# Altium footprint library WE-SHC.PcbLib: 139 footprints (part 10 of 10)
Each footprint in its own frame and in the unit in brackets; x right, y up, seen from the top. Pads: shape width x height; smd on the part's side, far side on the other; paste and mask are expansions set on the pad; w line width, h text height; cw(c..) or ccw(c..) is an arc to the next point about the centre after c.
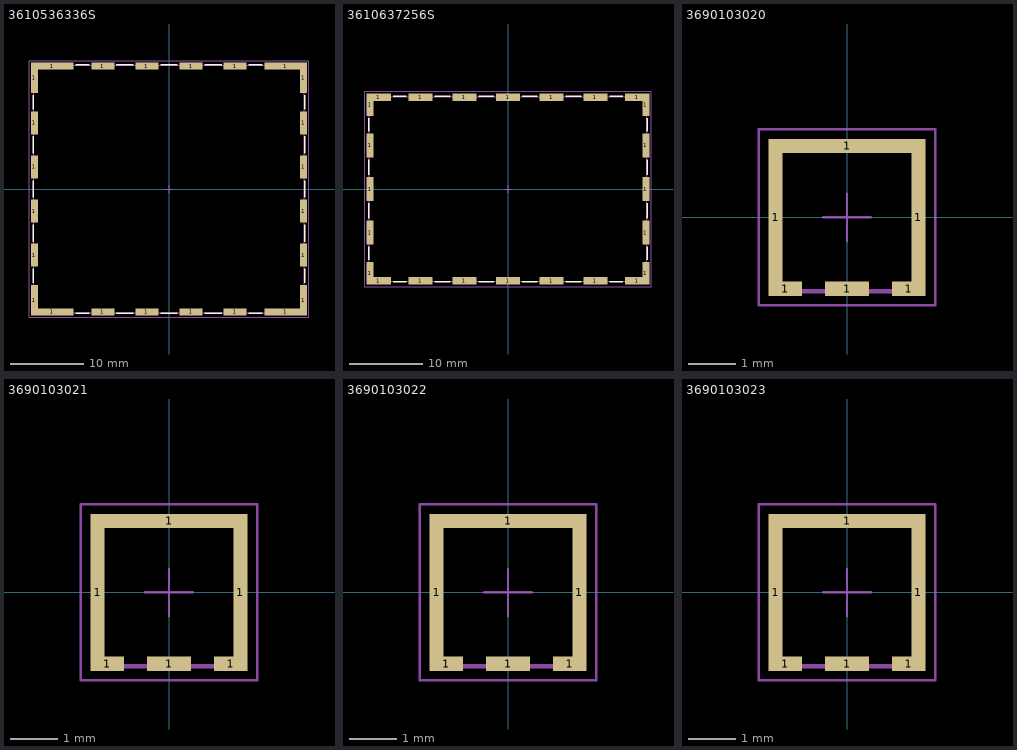
[diagram p9: the footprints below, top view; thin cyan lines are the x and y axes]

## 3610536336S [mm] "Shielding Cabinet, SMD Frame, 36.83x33.68mm"
height 5.18
pads (24):
  rect 1x4.2 smd: 1(-18.315,-15.14) 1(-18.315,15.14) 1(18.315,-15.14) 1(18.315,15.14)
  rect 1x3.1 smd: 1(-18.315,-9) 1(-18.315,-3) 1(-18.315,3) 1(-18.315,9) 1(18.315,-9) 1(18.315,-3) 1(18.315,3) 1(18.315,9)
  rect 5.8x1 smd: 1(-15.915,-16.74) 1(-15.915,16.74) 1(15.915,-16.74) 1(15.915,16.74)
  rect 3.1x1 smd: 1(-9,-16.74) 1(-9,16.74) 1(-3,-16.74) 1(-3,16.74) 1(3,-16.74) 1(3,16.74) 1(9,-16.74) 1(9,16.74)
Top Overlay:
  lines w0.2: -18.465,-12.75 -18.465,-10.85 ; -18.465,-7.15 -18.465,-4.85 ; -18.465,-1.15 -18.465,1.15 ; -18.465,4.85 -18.465,7.15 ; -18.465,10.85 -18.465,12.75 ; -12.7,-16.89 -10.85,-16.89 ; -12.7,16.89 -10.85,16.89 ; -7.15,-16.89 -4.85,-16.89 ; -7.15,16.89 -4.85,16.89 ; -1.15,-16.89 1.15,-16.89 ; -1.15,16.89 1.15,16.89 ; 4.85,-16.89 7.15,-16.89 ; 4.85,16.89 7.15,16.89 ; 10.85,-16.89 12.7,-16.89 ; 10.85,16.89 12.7,16.89 ; 18.465,-12.75 18.465,-10.85 ; 18.465,-7.15 18.465,-4.85 ; 18.465,-1.15 18.465,1.15 ; 18.465,4.85 18.465,7.15 ; 18.465,10.85 18.465,12.75
Top Component Outline:
  lines w0.1: -18.415,-16.84 -18.415,16.84 18.415,16.84 18.415,-16.84 -18.415,-16.84
Top 3D Body:
  lines w0.1: -18.415,-16.84 18.415,-16.84 18.415,16.84 -18.415,16.84 -18.415,-16.84
Top Courtyard:
  lines w0.05: -19.015,-17.44 -19.015,17.44 19.015,17.44 19.015,-17.44 -19.015,-17.44
Top Component Center:
  lines w0.05: -0.5,0 0.5,0 ; 0,-0.5 0,0.5
Top Designator (Mech19):
  text ".Designator" at -7.498,-0.5 h1.5
3D body "3610536336S.stp": height 5.1, standoff 0.02, extent -18.415,-16.84 18.415,16.84

## 3610637256S [mm] "Shielding Cabinet, SMD Frame, 38.1x25.4mm"
height 6.05
pads (24):
  rect 1x3.05 smd: 1(-18.95,-11.575) 1(-18.95,11.575) 1(18.95,-11.575) 1(18.95,11.575)
  rect 1x3.3 smd: 1(-18.95,-6) 1(-18.95,0) 1(-18.95,6) 1(18.95,-6) 1(18.95,0) 1(18.95,6)
  rect 3.4x1 smd: 1(-17.75,-12.6) 1(-17.75,12.6) 1(17.75,-12.6) 1(17.75,12.6)
  rect 3.3x1 smd: 1(-12,-12.6) 1(-12,12.6) 1(-6,-12.6) 1(-6,12.6) 1(0,-12.6) 1(0,12.6) 1(6,-12.6) 1(6,12.6) 1(12,-12.6) 1(12,12.6)
Top Overlay:
  lines w0.2: -19.1,-9.75 -19.1,-7.95 ; -19.1,-4.05 -19.1,-1.95 ; -19.1,1.95 -19.1,4.05 ; -19.1,7.95 -19.1,9.75 ; -15.75,-12.75 -13.95,-12.75 ; -15.75,12.75 -13.95,12.75 ; -10.05,-12.75 -7.95,-12.75 ; -10.05,12.75 -7.95,12.75 ; -4.05,-12.75 -1.95,-12.75 ; -4.05,12.75 -1.95,12.75 ; 1.95,-12.75 4.05,-12.75 ; 1.95,12.75 4.05,12.75 ; 7.95,-12.75 10.05,-12.75 ; 7.95,12.75 10.05,12.75 ; 13.95,-12.75 15.75,-12.75 ; 13.95,12.75 15.75,12.75 ; 19.1,-9.75 19.1,-7.95 ; 19.1,-4.05 19.1,-1.95 ; 19.1,1.95 19.1,4.05 ; 19.1,7.95 19.1,9.75
Top Component Outline:
  lines w0.1: -19.05,-12.7 -19.05,12.7 19.05,12.7 19.05,-12.7 -19.05,-12.7
Top 3D Body:
  lines w0.1: -19.05,-12.7 19.05,-12.7 19.05,12.7 -19.05,12.7 -19.05,-12.7
Top Courtyard:
  lines w0.05: -19.65,-13.45 -19.65,13.45 19.65,13.45 19.65,-13.45 -19.65,-13.45
Top Component Center:
  lines w0.05: -0.5,0 0.5,0 ; 0,-0.5 0,0.5
Top Designator (Mech19):
  text ".Designator" at -7.498,-0.5 h1.5
3D body "3610637256S.stp": height 6, standoff 0, extent -19.05,-12.7 19.05,12.7

## 3690103020 [mm] "Shielding Cabinet, body 3.1x3.1mm"
height 0.94
pads (6):
  rect 0.3x3.3 smd: 1(-1.5,0) 1(1.5,0)
  rect 0.71x0.3 smd: 1(-1.295,-1.5) 1(1.295,-1.5)
  rect 0.92x0.3 smd: 1(0,-1.5)
  rect 3.3x0.3 smd: 1(0,1.5)
Top Component Outline:
  lines w0.1: -1.55,-1.55 -1.55,1.55 1.55,1.55 1.55,-1.55 -1.55,-1.55
Top 3D Body:
  lines w0.1: -1.55,-1.55 1.55,-1.55 1.55,1.55 -1.55,1.55 -1.55,-1.55
Top Courtyard:
  lines w0.05: -1.85,-1.85 -1.85,1.85 1.85,1.85 1.85,-1.85 -1.85,-1.85
Top Component Center:
  lines w0.05: -0.5,0 0.5,0 ; 0,-0.5 0,0.5
Top Designator (Mech19):
  text ".Designator" at -4.998,-0.333 h1
3D body "3690103020.stp": height 0.89, standoff 0, extent -1.549,-1.549 1.549,1.55

## 3690103021 [mm] "Shielding Cabinet, body 3.1x3.1mm"
height 0.94
pads (6):
  rect 0.3x3.3 smd: 1(-1.5,0) 1(1.5,0)
  rect 0.71x0.3 smd: 1(-1.295,-1.5) 1(1.295,-1.5)
  rect 0.92x0.3 smd: 1(0,-1.5)
  rect 3.3x0.3 smd: 1(0,1.5)
Top Component Outline:
  lines w0.1: -1.55,-1.55 1.55,-1.55 1.55,1.55 -1.55,1.55 -1.55,-1.55
Top 3D Body:
  lines w0.1: -1.55,-1.55 -1.55,1.55 1.55,1.55 1.55,-1.55 -1.55,-1.55
Top Courtyard:
  lines w0.05: -1.85,-1.85 1.85,-1.85 1.85,1.85 -1.85,1.85 -1.85,-1.85
Top Component Center:
  lines w0.05: -0.5,0 0.5,0 ; 0,-0.5 0,0.5
Top Designator (Mech19):
  text ".Designator" at -4.998,-0.333 h1
3D body "3690103021.stp": height 0.89, standoff 0, extent -1.549,-1.549 1.549,1.55

## 3690103022 [mm] "Shielding Cabinet, body 3.1x3.1mm"
height 0.94
pads (6):
  rect 0.3x3.3 smd: 1(-1.5,0) 1(1.5,0)
  rect 0.71x0.3 smd: 1(-1.295,-1.5) 1(1.295,-1.5)
  rect 0.92x0.3 smd: 1(0,-1.5)
  rect 3.3x0.3 smd: 1(0,1.5)
Top Component Outline:
  lines w0.1: -1.55,-1.55 -1.55,1.55 1.55,1.55 1.55,-1.55 -1.55,-1.55
Top 3D Body:
  lines w0.1: -1.55,-1.55 1.55,-1.55 1.55,1.55 -1.55,1.55 -1.55,-1.55
Top Courtyard:
  lines w0.05: -1.85,-1.85 -1.85,1.85 1.85,1.85 1.85,-1.85 -1.85,-1.85
Top Component Center:
  lines w0.05: -0.5,0 0.5,0 ; 0,-0.5 0,0.5
Top Designator (Mech19):
  text ".Designator" at -4.998,-0.333 h1
3D body "3690103022.stp": height 0.89, standoff 0, extent -1.549,-1.549 1.549,1.549

## 3690103023 [mm] "Shielding Cabinet, body 3.1x3.1mm"
height 0.94
pads (6):
  rect 0.3x3.3 smd: 1(-1.5,0) 1(1.5,0)
  rect 0.71x0.3 smd: 1(-1.295,-1.5) 1(1.295,-1.5)
  rect 0.92x0.3 smd: 1(0,-1.5)
  rect 3.3x0.3 smd: 1(0,1.5)
Top Component Outline:
  lines w0.1: -1.55,-1.55 1.55,-1.55 1.55,1.55 -1.55,1.55 -1.55,-1.55
Top 3D Body:
  lines w0.1: -1.55,-1.55 -1.55,1.55 1.55,1.55 1.55,-1.55 -1.55,-1.55
Top Courtyard:
  lines w0.05: -1.85,-1.85 1.85,-1.85 1.85,1.85 -1.85,1.85 -1.85,-1.85
Top Component Center:
  lines w0.05: -0.5,0 0.5,0 ; 0,-0.5 0,0.5
Top Designator (Mech19):
  text ".Designator" at -4.998,-0.333 h1
3D body "3690103023.stp": height 0.89, standoff 0, extent -1.549,-1.549 1.549,1.549